# Altium footprint library ICs.PcbLib: 86 footprints (part 2 of 6)
Each footprint in its own frame and in the unit in brackets; x right, y up, seen from the top. Pads: shape width x height; smd on the part's side, far side on the other; paste and mask are expansions set on the pad; w line width, h text height; cw(c..) or ccw(c..) is an arc to the next point about the centre after c.
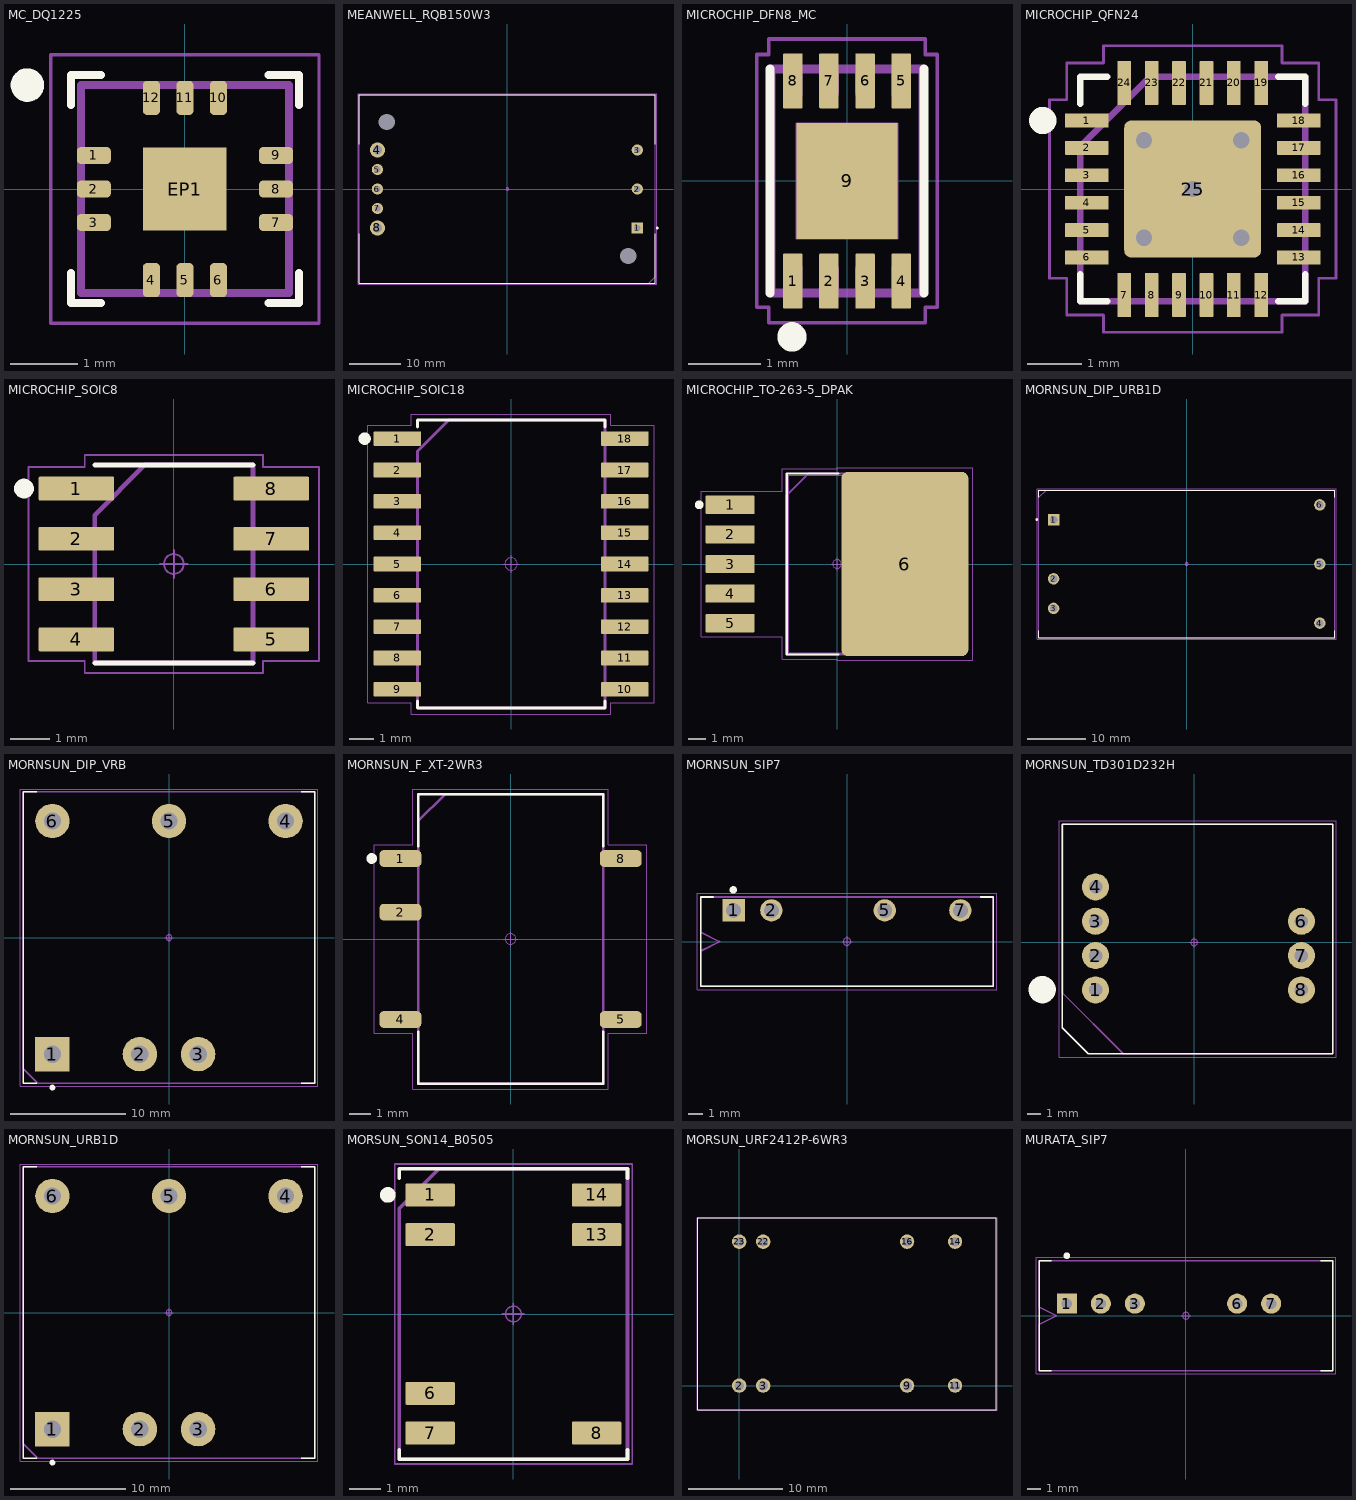
[diagram p1: the footprints below, top view; thin cyan lines are the x and y axes]

## MC_DQ1225 [mil] "0.51 mm pitch; 12 pin, 3 mm L X 3 mm W X 0.89 mm H body"
pads (13):
  rrect50% 20x10 smd: 1(-53.5,19.68) 2(-53.5,0) 3(-53.5,-19.68) 7(53.5,-19.68) 8(53.5,0) 9(53.5,19.68)
  rrect50% 10x20 smd: 4(-19.68,-53.5) 5(0,-53.5) 6(19.68,-53.5) 10(19.68,53.5) 11(0,53.5) 12(-19.68,53.5)
  rect 49x49 smd: EP1(0,0)
Top Overlay:
  circle w9.84: c-92.52,61.02 r4.92
  lines w4.72: -66.93,-49.21 -66.93,-66.93 -49.21,-66.93 ; -66.93,49.21 -66.93,66.93 -49.21,66.93 ; 49.21,-66.93 66.93,-66.93 66.93,-49.21 ; 49.21,66.93 66.93,66.93 66.93,49.21
Mechanical 11:
  lines w4.72: -61.02,-61.02 -61.02,61.02 61.02,61.02 61.02,-61.02 -61.02,-61.02
Mechanical 15:
  circle w1.97: c0,0 r9.84
  lines w1.97: -13.78,0 13.78,0 ; 0,-13.78 0,13.78 ; -78.74,-78.74 -78.74,78.74 78.74,78.74 78.74,-78.74 -78.74,-78.74
3D body "User Library-QFN 12-Pin 0_5mm Pitch.step": height 33.5, standoff 0, extent -59.45,-59.45 59.45,59.45

## MEANWELL_RQB150W3 [mm] "DIP, 50.80 mm lead span, 3.81 mm pitch; 8 pin, 36.80 mm L X 57.90 mm W X 12.70 mm H body"
pads (10):
  round 0 hole 3.2 unplated: 0(-23.6,13.1) 0(23.6,-13.1)
  rect 2.2x2.2 hole 1.2 paste-2539.97: 1(25.4,-7.62)
  round 2.2 hole 1.2 paste-2539.97: 2(25.4,0) 3(25.4,7.62) 5(-25.4,3.81) 6(-25.4,0) 7(-25.4,-3.81)
  round 3 hole 1.8 paste-2539.97: 4(-25.4,7.62) 8(-25.4,-7.62)
Top Overlay:
  circle w0.25: c29.32,-7.62 r0.125
  lines w0.12: -28.95,-8.7 -28.95,-18.4 28.95,-18.4 28.95,-8.7 ; -28.95,8.7 -28.95,18.4 28.95,18.4 28.95,8.7
Mechanical 11:
  lines w0.12: -28.95,-18.4 -28.95,18.4 28.95,18.4 28.95,-17.13 27.68,-18.4 -28.95,-18.4
  text ".Designator" at -11.274,-1.132 h5
Mechanical 15:
  circle w0.05: c0,0 r0.25
  lines w0.05: -0.35,0 0.35,0 ; 0,-0.35 0,0.35 ; -29.2,-18.65 29.2,-18.65 29.2,18.65 -29.2,18.65 -29.2,-18.65
3D body "Блок питания 110В-48В RQB150W3-110S48.stp": height 12.74, standoff -4.06, extent -28.95,-18.4 28.95,18.4

## MICROCHIP_DFN8_MC [mm] "Small Outline No-Lead (SON with Tab), 0.50 mm pitch; 8 pin, 2.00 mm L X 3.00 mm W X 1.00 mm H body"
pads (9):
  rrect10% 0.27x0.76 smd: 1(-0.75,-1.385) 2(-0.25,-1.385) 3(0.25,-1.385) 4(0.75,-1.385) 5(0.75,1.385) 6(0.25,1.385) 7(-0.25,1.385) 8(-0.75,1.385)
  rect 1.4x1.6 smd paste-1.6: 9(0,0)
Top Overlay:
  circle w0.35: c-0.762,-2.159 r0.028
  lines w0.12: -1.065,-1.55 -1.065,1.55 ; 1.065,-1.55 1.065,1.55
Top Paste:
  region: 0.48,0.075 -0.48,0.075 -0.48,0.655 0.48,0.655
  region: 0.48,-0.655 -0.48,-0.655 -0.48,-0.075 0.48,-0.075
Mechanical 11:
  lines w0.12: -1.05,-1.55 1.05,-1.55 1.05,1.55 -1.05,1.55 -1.05,-1.55
  text ".Designator" at 0.113,-1.126 h0.5
Mechanical 12:
  lines w0.025: -1,-1.5 1,-1.5 1,1.5 -1,1.5 -1,-1.5 ; -0.875,-1.5 -0.625,-1.5 -0.625,-1.225 ccw(c-0.75,-1.225) -0.875,-1.225 -0.875,-1.5 ; -0.875,1.225 ccw(c-0.75,1.225) -0.625,1.225 -0.625,1.5 -0.875,1.5 -0.875,1.225 ; -0.7,-0.8 -0.7,0.8 0.7,0.8 0.7,-0.8 -0.7,-0.8 ; -0.375,-1.5 -0.125,-1.5 -0.125,-1.225 ccw(c-0.25,-1.225) -0.375,-1.225 -0.375,-1.5 ; -0.375,1.225 ccw(c-0.25,1.225) -0.125,1.225 -0.125,1.5 -0.375,1.5 -0.375,1.225 ; 0.125,-1.5 0.375,-1.5 0.375,-1.225 ccw(c0.25,-1.225) 0.125,-1.225 0.125,-1.5 ; 0.125,1.225 ccw(c0.25,1.225) 0.375,1.225 0.375,1.5 0.125,1.5 0.125,1.225 ; 0.625,-1.5 0.875,-1.5 0.875,-1.225 ccw(c0.75,-1.225) 0.625,-1.225 0.625,-1.5 ; 0.625,1.225 ccw(c0.75,1.225) 0.875,1.225 0.875,1.5 0.625,1.5 0.625,1.225
Mechanical 15:
  circle w0.05: c0,0 r0.25
  lines w0.05: -0.35,0 0.35,0 ; 0,-0.35 0,0.35 ; -1.25,-1.75 -1.085,-1.75 -1.085,-1.965 1.085,-1.965 1.085,-1.75 1.25,-1.75 1.25,1.75 1.085,1.75 1.085,1.965 -1.085,1.965 -1.085,1.75 -1.25,1.75 -1.25,-1.75
3D body "MICROCHIP_DFN8_MC.STEP": height 1, standoff 0, extent -1.05,-1.6 1.05,1.6

## MICROCHIP_QFN24 [mm] "Quad Flat No-Lead (QFN with Tab), 0.50 mm pitch; square, 6 pin X 6 pin, 4.00 mm L X 4.00 mm W X 1.00 mm H body"
pads (25):
  rrect10% 0.8x0.25 smd: 1(-1.935,1.25) 2(-1.935,0.75) 3(-1.935,0.25) 4(-1.935,-0.25) 5(-1.935,-0.75) 6(-1.935,-1.25) 13(1.935,-1.25) 14(1.935,-0.75) 15(1.935,-0.25) 16(1.935,0.25) 17(1.935,0.75) 18(1.935,1.25)
  rrect10% 0.25x0.8 smd: 7(-1.25,-1.935) 8(-0.75,-1.935) 9(-0.25,-1.935) 10(0.25,-1.935) 11(0.75,-1.935) 12(1.25,-1.935) 19(1.25,1.935) 20(0.75,1.935) 21(0.25,1.935) 22(-0.25,1.935) 23(-0.75,1.935) 24(-1.25,1.935)
  rrect10% 2.5x2.5 smd paste-2.5: 25(0,0)
via 0,0 diameter 0.6 hole 0.3
via 0.889,0.889 diameter 0.6 hole 0.3
via -0.889,0.889 diameter 0.6 hole 0.3
via -0.889,-0.889 diameter 0.6 hole 0.3
via 0.889,-0.889 diameter 0.6 hole 0.3
Top Overlay:
  circle w0.25: c-2.735,1.25 r0.125
  lines w0.12: -2.05,-1.56 -2.05,-2.05 -1.56,-2.05 ; -2.05,1.56 -2.05,2.05 -1.56,2.05 ; 1.56,-2.05 2.05,-2.05 2.05,-1.56 ; 1.56,2.05 2.05,2.05 2.05,1.56
Top Paste:
  region: 0.12,0.12 0.12,1 1,1 1,0.12
  region: -1,0.12 -1,1 -0.12,1 -0.12,0.12
  region: 0.12,-1 0.12,-0.12 1,-0.12 1,-1
  region: -1,-1 -1,-0.12 -0.12,-0.12 -0.12,-1
Mechanical 11:
  lines w0.12: -2.05,-2.05 2.05,-2.05 2.05,2.05 -0.78,2.05 -2.05,0.78 -2.05,-2.05
  text ".Designator" at -2.252,-0.226 h1
Mechanical 15:
  circle w0.05: c0,0 r0.25
  lines w0.05: -0.35,0 0.35,0 ; 0,-0.35 0,0.35 ; -2.615,-1.63 -2.3,-1.63 -2.3,-2.3 -1.63,-2.3 -1.63,-2.615 1.63,-2.615 1.63,-2.3 2.3,-2.3 2.3,-1.63 2.615,-1.63 2.615,1.63 2.3,1.63 2.3,2.3 1.63,2.3 1.63,2.615 -1.63,2.615 -1.63,2.3 -2.3,2.3 -2.3,1.63 -2.615,1.63 -2.615,-1.63
3D body "MICROCHIP_QFN24.STEP": height 1, standoff 0, extent -2.1,-2.1 2.1,2.1

## MICROCHIP_SOIC8 [mm] "Small Outline IC (SOIC), 1.27 mm pitch; 8 pin, 4.90 mm L X 3.90 mm W X 1.75 mm H body"
pads (8):
  rrect10% 1.91x0.6 smd: 1(-2.46,1.905) 2(-2.46,0.635) 3(-2.46,-0.635) 4(-2.46,-1.905) 5(2.46,-1.905) 6(2.46,-0.635) 7(2.46,0.635) 8(2.46,1.905)
Top Overlay:
  circle w0.25: c-3.785,1.905 r0.125
  lines w0.12: -2,-2.5 2,-2.5 ; -2,2.5 2,2.5
Mechanical 11:
  lines w0.12: -2,-2.5 2,-2.5 2,2.5 -0.73,2.5 -2,1.23 -2,-2.5
  text ".Designator" at -4.511,-0.453 h2
Mechanical 15:
  circle w0.05: c0,0 r0.25
  lines w0.05: -0.35,0 0.35,0 ; 0,-0.35 0,0.35 ; -3.665,-2.455 -2.25,-2.455 -2.25,-2.75 2.25,-2.75 2.25,-2.455 3.665,-2.455 3.665,2.455 2.25,2.455 2.25,2.75 -2.25,2.75 -2.25,2.455 -3.665,2.455 -3.665,-2.455
3D body "MICROCHIP_SOIC8.STEP": height 1.75, standoff 0, extent -3.05,-2.5 3.05,2.5

## MICROCHIP_SOIC18 [mm] "Small Outline IC (SOIC), 1.27 mm pitch; 18 pin, 11.55 mm L X 7.50 mm W X 2.65 mm H body"
pads (18):
  rrect10% 1.91x0.6 smd: 1(-4.61,5.08) 2(-4.61,3.81) 3(-4.61,2.54) 4(-4.61,1.27) 5(-4.61,0) 6(-4.61,-1.27) 7(-4.61,-2.54) 8(-4.61,-3.81) 9(-4.61,-5.08) 10(4.61,-5.08) 11(4.61,-3.81) 12(4.61,-2.54) 13(4.61,-1.27) 14(4.61,0) 15(4.61,1.27) 16(4.61,2.54) 17(4.61,3.81) 18(4.61,5.08)
Top Overlay:
  circle w0.25: c-5.935,5.08 r0.125
  lines w0.12: -3.8,-5.56 -3.8,-5.83 3.8,-5.83 3.8,-5.56 ; -3.8,5.56 -3.8,5.83 3.8,5.83 3.8,5.56
Mechanical 11:
  lines w0.12: -3.8,-5.83 3.8,-5.83 3.8,5.83 -2.53,5.83 -3.8,4.56 -3.8,-5.83
  text ".Designator" at -4.511,-0.453 h2
Mechanical 15:
  circle w0.05: c0,0 r0.25
  lines w0.05: -0.35,0 0.35,0 ; 0,-0.35 0,0.35 ; -5.815,-5.63 -4.05,-5.63 -4.05,-6.08 4.05,-6.08 4.05,-5.63 5.815,-5.63 5.815,5.63 4.05,5.63 4.05,6.08 -4.05,6.08 -4.05,5.63 -5.815,5.63 -5.815,-5.63
3D body "MICROCHIP_SOIC18.STEP": height 2.65, standoff 0, extent -5.2,-5.825 5.2,5.825

## MICROCHIP_TO-263-5_DPAK [mm]
pads (6):
  rrect10% 2.82x1.05 smd: 1(-6.14,3.4) 2(-6.14,1.7) 3(-6.14,0) 4(-6.14,-1.7) 5(-6.14,-3.4)
  rrect10% 7.3x10.58 smd paste-10.58: 6(3.9,0)
Top Overlay:
  circle w0.25: c-7.92,3.4 r0.125
  lines w0.12: 0.07,-5.21 -2.89,-5.21 -2.89,5.21 0.07,5.21
Top Paste:
  region: 5.54,3.73 5.54,5.07 7.14,5.07 7.14,3.73
  region: 3.1,3.73 3.1,5.07 4.7,5.07 4.7,3.73
  region: 0.66,3.73 0.66,5.07 2.26,5.07 2.26,3.73
  region: 5.54,1.97 5.54,3.31 7.14,3.31 7.14,1.97
  region: 3.1,1.97 3.1,3.31 4.7,3.31 4.7,1.97
  region: 0.66,1.97 0.66,3.31 2.26,3.31 2.26,1.97
  region: 5.54,0.21 5.54,1.55 7.14,1.55 7.14,0.21
  region: 3.1,0.21 3.1,1.55 4.7,1.55 4.7,0.21
  region: 0.66,0.21 0.66,1.55 2.26,1.55 2.26,0.21
  region: 5.54,-1.55 5.54,-0.21 7.14,-0.21 7.14,-1.55
  region: 3.1,-1.55 3.1,-0.21 4.7,-0.21 4.7,-1.55
  region: 0.66,-1.55 0.66,-0.21 2.26,-0.21 2.26,-1.55
  region: 5.54,-3.31 5.54,-1.97 7.14,-1.97 7.14,-3.31
  region: 3.1,-3.31 3.1,-1.97 4.7,-1.97 4.7,-3.31
  region: 0.66,-3.31 0.66,-1.97 2.26,-1.97 2.26,-3.31
  region: 5.54,-5.07 5.54,-3.73 7.14,-3.73 7.14,-5.07
  region: 3.1,-5.07 3.1,-3.73 4.7,-3.73 4.7,-5.07
  region: 0.66,-5.07 0.66,-3.73 2.26,-3.73 2.26,-5.07
Mechanical 11:
  lines w0.12: -2.89,-5.21 6.01,-5.21 6.01,5.21 -1.62,5.21 -2.89,3.94 -2.89,-5.21
  text ".Designator" at -4.511,-0.453 h2
Mechanical 12:
  lines w0.025: -2.76,-5.112 5.88,-5.112 5.88,5.112 -2.76,5.112 -2.76,-5.112
Mechanical 15:
  circle w0.05: c0,0 r0.25
  lines w0.05: -0.35,0 0.35,0 ; 0,-0.35 0,0.35 ; -7.8,-4.175 -3.14,-4.175 -3.14,-5.46 0,-5.46 0,-5.54 7.8,-5.54 7.8,5.54 0,5.54 0,5.46 -3.14,5.46 -3.14,4.175 -7.8,4.175 -7.8,-4.175
3D body "TI_TO-263_KTT0005B.STEP": height 4.65, standoff 0, extent -7.175,-5.205 7.175,5.205

## MORNSUN_DIP_URB1D [mm] "DIPS, 45.72 mm lead span, 10.16 mm pitch; 6 pin, 25.40 mm L X 50.80 mm W X 11.80 mm H body"
pads (6):
  rect 1.95x1.95 hole 1.3 paste-2539.97: 1(-22.86,7.62)
  round 1.95 hole 1.3 paste-2539.97: 2(-22.86,-2.54) 3(-22.86,-7.62) 4(22.86,-10.16) 5(22.86,0) 6(22.86,10.16)
Top Overlay:
  circle w0.25: c-25.77,7.62 r0.125
  lines w0.12: -25.4,-11.51 -25.4,-12.7 25.4,-12.7 25.4,-11.51 ; -25.4,11.51 -25.4,12.7 25.4,12.7 25.4,11.51
Mechanical 11:
  lines w0.12: -25.4,-12.7 25.4,-12.7 25.4,12.7 -24.13,12.7 -25.4,11.43 -25.4,-12.7
  text ".Designator" at -6.763,-0.679 h3
Mechanical 15:
  circle w0.05: c0,0 r0.25
  lines w0.05: -0.35,0 0.35,0 ; 0,-0.35 0,0.35 ; -25.65,-12.95 -25.65,12.95 25.65,12.95 25.65,-12.95 -25.65,-12.95
3D body "URB1D_LD-20WR3.stp": height 11.8, standoff -4, extent -25.45,-12.75 25.45,12.75

## MORNSUN_DIP_VRB [mm] "DIPS, 20.32 mm lead span, 10.16 mm pitch; 6 pin, 25.40 mm L X 25.40 mm W X 11.70 mm H body"
pads (6):
  rect 3x3 hole 1.5 paste-2539.97: 1(-10.16,-10.16)
  round 3 hole 1.5 paste-2539.97: 2(-2.54,-10.16) 3(2.54,-10.16) 4(10.16,10.16) 5(0,10.16) 6(-10.16,10.16)
Top Overlay:
  circle w0.25: c-10.16,-13.07 r0.125
  lines w0.12: -11.51,-12.7 -12.7,-12.7 -12.7,12.7 -11.51,12.7 ; 11.51,-12.7 12.7,-12.7 12.7,12.7 11.51,12.7
Mechanical 11:
  lines w0.12: -12.7,-11.43 -11.43,-12.7 12.7,-12.7 12.7,12.7 -12.7,12.7 -12.7,-11.43
  text ".Designator" at -6.763,-0.679 h3
Mechanical 15:
  circle w0.05: c0,0 r0.25
  lines w0.05: -0.35,0 0.35,0 ; 0,-0.35 0,0.35 ; -12.95,-12.95 -12.95,12.95 12.95,12.95 12.95,-12.95 -12.95,-12.95
3D body "VRB_YMD-15WR3.stp": height 11.7, standoff -4.15, extent -12.725,-12.7 12.725,12.7

## MORNSUN_F_XT-2WR3 [mm] "Small Outline IC (SOIC), 2.54 mm pitch; 8 pin, 13.20 mm L X 8.50 mm W X 7.50 mm H body"
pads (5):
  rrect51% 1.98x0.79 smd: 1(-5.215,3.81) 2(-5.215,1.27) 4(-5.215,-3.81) 5(5.215,-3.81) 8(5.215,3.81)
Top Overlay:
  circle w0.25: c-6.575,3.81 r0.125
  lines w0.12: -4.38,-4.385 -4.38,-6.85 4.38,-6.85 4.38,-4.385 ; -4.38,4.385 -4.38,6.85 4.38,6.85 4.38,4.385
Mechanical 11:
  lines w0.12: -4.38,-6.85 4.38,-6.85 4.38,6.85 -3.11,6.85 -4.38,5.58 -4.38,-6.85
  text ".Designator" at -2.252,-0.226 h1
Mechanical 15:
  circle w0.05: c0,0 r0.25
  lines w0.05: -0.35,0 0.35,0 ; 0,-0.35 0,0.35 ; -6.455,-4.455 -4.63,-4.455 -4.63,-7.1 4.63,-7.1 4.63,-4.455 6.455,-4.455 6.455,4.455 4.63,4.455 4.63,7.1 -4.63,7.1 -4.63,4.455 -6.455,4.455 -6.455,-4.455
3D body "SOIC8P254_1320X1140X750L95X60.STEP": height 7.5, standoff 0, extent -5.85,-6.85 5.85,6.85

## MORNSUN_SIP7 [mm] "SIP, 2.54 mm pitch; 7 pin, 19.65 mm L X 6.00 mm W X 10.16 mm H body"
pads (4):
  rect 1.5x1.5 hole 1 paste-2539.97: 1(-7.62,2.1)
  round 1.5 hole 1 paste-2539.97: 2(-5.08,2.1) 5(2.54,2.1) 7(7.62,2.1)
Top Overlay:
  circle w0.25: c-7.645,3.472 r0.125
  lines w0.12: -9,3 -9.83,3 -9.83,-3 -8.82,-3 8.82,-3 9.83,-3 9.83,3 9,3 ; 9,3 9,3
Mechanical 11:
  lines w0.12: -9.83,-3 9.83,-3 9.83,3 -9.83,3 -9.83,0.635 -8.56,0 -9.83,-0.635 -9.83,-3
  text ".Designator" at -6.763,-0.679 h3
Mechanical 15:
  circle w0.05: c0,0 r0.25
  lines w0.05: -0.35,0 0.35,0 ; 0,-0.35 0,0.35 ; -10.08,-3.25 -10.08,3.25 10.08,3.25 10.08,-3.25 -10.08,-3.25
3D body "F_S-1WR3.stp": height 10.16, standoff -4.1, extent -9.825,-3 9.825,3

## MORNSUN_TD301D232H [mm] "Mornsun DIP8 case 20x17"
pads (7):
  round 2 hole 1: 1(-7.303,-3.516) 2(-7.303,-0.976) 3(-7.303,1.564) 4(-7.303,4.104) 6(7.937,1.564) 7(7.937,-0.976) 8(7.937,-3.516)
Top Overlay:
  circle w1.1: c-11.25,-3.5 r0.458
  lines w0.12: -9.775,-6.313 -9.775,8.75 10.25,8.75 10.25,-8.25 -7.838,-8.25 -9.775,-6.313
Mechanical 11:
  lines w0.12: -9.75,-3.75 -5.25,-8.25 10.25,-8.25 10.25,8.75 -9.75,8.75 -9.75,-3.75
  text ".Designator" at -6.763,-1.244 h3
Mechanical 15:
  circle w0.05: c0,0 r0.25
  lines w0.05: -0.35,0 0.35,0 ; 0,-0.35 0,0.35 ; -10,-8.5 -10,9 10.5,9 10.5,-8.5 -10,-8.5
3D body "TDx01D232H.stp": height 7, standoff -4.1, extent -9.75,-8.25 10.25,8.75

## MORNSUN_URB1D [mm] "DIPS, 20.32 mm lead span, 10.16 mm pitch; 6 pin, 25.40 mm L X 25.40 mm W X 11.70 mm H body"
pads (6):
  rect 3x3 hole 1.5 paste-2539.97: 1(-10.16,-10.16)
  round 3 hole 1.5 paste-2539.97: 2(-2.54,-10.16) 3(2.54,-10.16) 4(10.16,10.16) 5(0,10.16) 6(-10.16,10.16)
Top Overlay:
  circle w0.25: c-10.16,-13.07 r0.125
  lines w0.12: -11.51,-12.7 -12.7,-12.7 -12.7,12.7 -11.51,12.7 ; 11.51,-12.7 12.7,-12.7 12.7,12.7 11.51,12.7
Mechanical 11:
  lines w0.12: -12.7,-11.43 -11.43,-12.7 12.7,-12.7 12.7,12.7 -12.7,12.7 -12.7,-11.43
  text ".Designator" at -6.763,-0.679 h3
Mechanical 15:
  circle w0.05: c0,0 r0.25
  lines w0.05: -0.35,0 0.35,0 ; 0,-0.35 0,0.35 ; -12.95,-12.95 -12.95,12.95 12.95,12.95 12.95,-12.95 -12.95,-12.95
3D body "VRB_YMD-15WR3.stp": height 11.7, standoff -4.15, extent -12.725,-12.7 12.725,12.7

## MORSUN_SON14_B0505 [mm] "Pullback Small Outline No-Lead (PSON), 1.27 mm pitch; 14 pin, 9.00 mm L X 7.00 mm W X 3.40 mm H body"
pads (7):
  rrect10% 1.58x0.73 smd: 1(-2.665,3.81) 2(-2.665,2.54) 6(-2.665,-2.54) 7(-2.665,-3.81) 8(2.665,-3.81) 13(2.665,2.54) 14(2.665,3.81)
Top Overlay:
  circle w0.25: c-4.02,3.81 r0.125
  lines w0.12: -3.65,-4.355 -3.65,-4.65 3.65,-4.65 3.65,-4.355 ; -3.65,4.355 -3.65,4.65 3.65,4.65 3.65,4.355
Mechanical 11:
  lines w0.12: -3.65,-4.65 3.65,-4.65 3.65,4.65 -2.38,4.65 -3.65,3.38 -3.65,-4.65
  text ".Designator" at -2.252,-0.226 h1
Mechanical 15:
  circle w0.05: c0,0 r0.25
  lines w0.05: -0.35,0 0.35,0 ; 0,-0.35 0,0.35 ; -3.8,-4.8 -3.8,4.8 3.8,4.8 3.8,-4.8 -3.8,-4.8
3D body "PSON14P127_900X700X340L125X60.STEP": height 3.4, standoff 0, extent -3.65,-4.65 3.65,4.65

## MORSUN_URF2412P-6WR3 [mil]
pads (8):
  round 60 hole 39.37: 2(0,0) 3(100,0) 9(700,0) 11(900,0) 14(900,600) 16(700,600) 22(100,600) 23(0,600)
Top Overlay:
  lines w4.72: -173,-100 1071.09,-100 1071.09,699.21 -173,699.21 -173,-100
Mechanical 2:
  lines w4.72: -176,-103 1075,-103 1075,700 -176,700 -176,-103
  text ".Designator" at 222.42,314.8 h78.74
3D body "URE_P-6WR3.stp": height 399.69, standoff -163.3, extent -173.07,-101 1071.07,698.29

## MURATA_SIP7 [mm] "SIP, 2.54 mm pitch; 8 pin, 21.87 mm L X 8.20 mm W X 11.30 mm H body"
pads (5):
  rect 1.5x1.5 hole 0.78 paste-2539.97: 1(-8.883,0.905)
  round 1.5 hole 0.78 paste-2539.97: 2(-6.343,0.905) 3(-3.803,0.905) 6(3.817,0.905) 7(6.357,0.905)
Top Overlay:
  circle w0.25: c-8.883,4.475 r0.125
  lines w0.12: -10.033,-4.095 -10.933,-4.095 -10.933,4.105 -10.033,4.105 ; 10.047,-4.095 10.947,-4.095 10.947,4.105 10.047,4.105
Mechanical 11:
  lines w0.12: -10.933,-4.095 -10.933,-0.63 -9.663,0.005 -10.933,0.64 -10.933,4.105 10.947,4.105 10.947,-4.095 -10.933,-4.095
  text ".Designator" at -6.763,-0.679 h3
Mechanical 15:
  circle w0.05: c0,0 r0.25
  lines w0.05: -0.35,0 0.35,0 ; 0,-0.35 0,0.35 ; -11.183,-4.345 -11.183,4.355 11.197,4.355 11.197,-4.345 -11.183,-4.345
3D body "mps_dcdc_ncs1s_sc_a.step": height 11.3, standoff -4.1, extent -11.153,-4.114 10.717,4.106